# Altium schematic symbol library Integrated_Library - 21.10.25 - 13.14.SchLib: 7 symbols
Pins are listed as number, name and electrical type; pins without a type are passive.

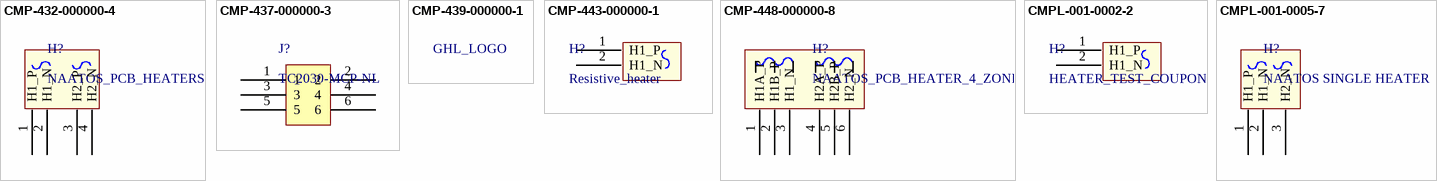
[diagram p0: symbols CMP-432-000000-4 to CMPL-001-0005-7]

## CMP-432-000000-4
designator H?, comment NAATOS_PCB_HEATERS  (net tie, no BOM)
Source: NAATOS_PCB_HEATERS.SchLib; Design Item ID: NAATOS_PCB_HEATERS
footprint rev1 (valve heater: 3 mil, 4.93 x 10mm / amp heater: 6 mil, 25.02 x 10mm)
footprint REV5
footprint REV6 (1V5 Design)
footprint REV7 (2V5 4mil)
footprint REV5 (2V5 Design)
footprint REV8 (MK5)
footprint REV7 (2V5 4mil)
footprint rev1 (valve heater: 3 mil, 4.93 x 10mm / amp heater: 6 mil, 25.02 x 10mm)
footprint REV6 (1V5 Design)
pins: 1 H1_P, 2 H1_N, 3 H2_P, 4 H2_N

## CMP-437-000000-3
designator J?, comment TC2030-MCP-NL
TAG CONNECT FOR UPDI; Design Item ID: TC2030-MCP-NL; Source: TC2030-MCP-NL.SchLib
footprint TC2030-MCP-NL (TAG CONNECT - WITH LEGS)
footprint TC2030-MCP-NL (TAG CONNECT - WITH LEGS)
pins: 1, 2, 3, 4, 5, 6

## CMP-439-000000-1
designator LOGO, comment GHL_LOGO
Design Item ID: GHL_LOGO; Source: GHLABS_LOGO.SchLib
footprint GHLABS_LOGO
footprint GHLABS_LOGO

## CMP-443-000000-1
designator H?, comment Resistive_heater  (net tie, no BOM)
copper track; Source: heater_test_coupon.SchLib; Design Item ID: Resistive_heater
footprint 4_mil_400mm (4mil track about 400 mm long)
footprint 5mil_400mm (5 mil track, 5 mil spacing, 400mm length)
footprint 6MIL_400MM (6MIL track, 6MIL spacing, 400mm length)
footprint 7MIL_400MM (7MIL track, 7MIL spacing, 400mm length)
footprint 8MIL_400MM (8MIL track, 8MIL spacing, 400mm length)
footprint 9MIL_400MM (9MIL track, 9MIL spacing, 400mm length)
footprint 10MIL_400MM (10MIL track, 10MIL spacing, 400mm length)
footprint 4_mil_400mm (4mil track about 400 mm long)
footprint 5mil_400mm (5 mil track, 5 mil spacing, 400mm length)
footprint 9MIL_400MM (9MIL track, 9MIL spacing, 400mm length)
footprint 8MIL_400MM (8MIL track, 8MIL spacing, 400mm length)
footprint 10MIL_400MM (10MIL track, 10MIL spacing, 400mm length)
footprint 7MIL_400MM (7MIL track, 7MIL spacing, 400mm length)
footprint 6MIL_400MM (6MIL track, 6MIL spacing, 400mm length)
pins: 1 H1_P, 2 H1_N

## CMP-448-000000-8
designator H?, comment NAATOS_PCB_HEATER_4_ZONE  (net tie, no BOM)
Source: NAATOS_PCB_HEATER_4ELEMENT.SchLib; Design Item ID: NAATOS_PCB_HEATERS
footprint REV6 (1V5 Design)
footprint REV9-1 (MK8: Dual zone)
footprint REV8 (MK5)
pins: 1 H1A_P, 2 H1B_P, 3 H1_N, 4 H2A_P, 5 H2B_P, 6 H2_N

## CMPL-001-0002-2
designator H?, comment HEATER_TEST_COUPON  (net tie, no BOM)
Resistive track
footprint 4_mil_400mm (4mil track about 400 mm long)
footprint 5mil_400mm (5 mil track, 5 mil spacing, 400mm length)
footprint 6MIL_400MM (6MIL track, 6MIL spacing, 400mm length)
footprint 7MIL_400MM (7MIL track, 7MIL spacing, 400mm length)
footprint 8MIL_400MM (8MIL track, 8MIL spacing, 400mm length)
footprint 9MIL_400MM (9MIL track, 9MIL spacing, 400mm length)
footprint 10MIL_400MM (10MIL track, 10MIL spacing, 400mm length)
footprint 4_mil_400mm (4mil track about 400 mm long)
footprint 5mil_400mm (5 mil track, 5 mil spacing, 400mm length)
footprint 9MIL_400MM (9MIL track, 9MIL spacing, 400mm length)
footprint 8MIL_400MM (8MIL track, 8MIL spacing, 400mm length)
footprint 10MIL_400MM (10MIL track, 10MIL spacing, 400mm length)
footprint 7MIL_400MM (7MIL track, 7MIL spacing, 400mm length)
footprint 6MIL_400MM (6MIL track, 6MIL spacing, 400mm length)
pins: 1 H1_P, 2 H1_N

## CMPL-001-0005-7
designator H?, comment NAATOS SINGLE HEATER  (net tie, no BOM)
3 tap single heater; Design Item ID: NAATOS_PCB_HEATERS; Source: NAATOS_PCB_HEATERS.SchLib
footprint rev1 (valve heater: 3 mil, 4.93 x 10mm / amp heater: 6 mil, 25.02 x 10mm)
footprint REV5
footprint REV6 (1V5 Design)
footprint REV7 (2V5 4mil)
footprint rev9 (10x10mm 6mil trace / Dual Zone: primary 1 ohm, secondary 0.5 ohm)
pins: 1 H1_P, 2 H1_N, 3 H2_N